# Altium footprint library Connector_TE-Connectivity.PcbLib: 65 footprints (part 2 of 5)
Each footprint in its own frame and in the unit in brackets; x right, y up, seen from the top. Pads: shape width x height; smd on the part's side, far side on the other; paste and mask are expansions set on the pad; w line width, h text height; cw(c..) or ccw(c..) is an arc to the next point about the centre after c.
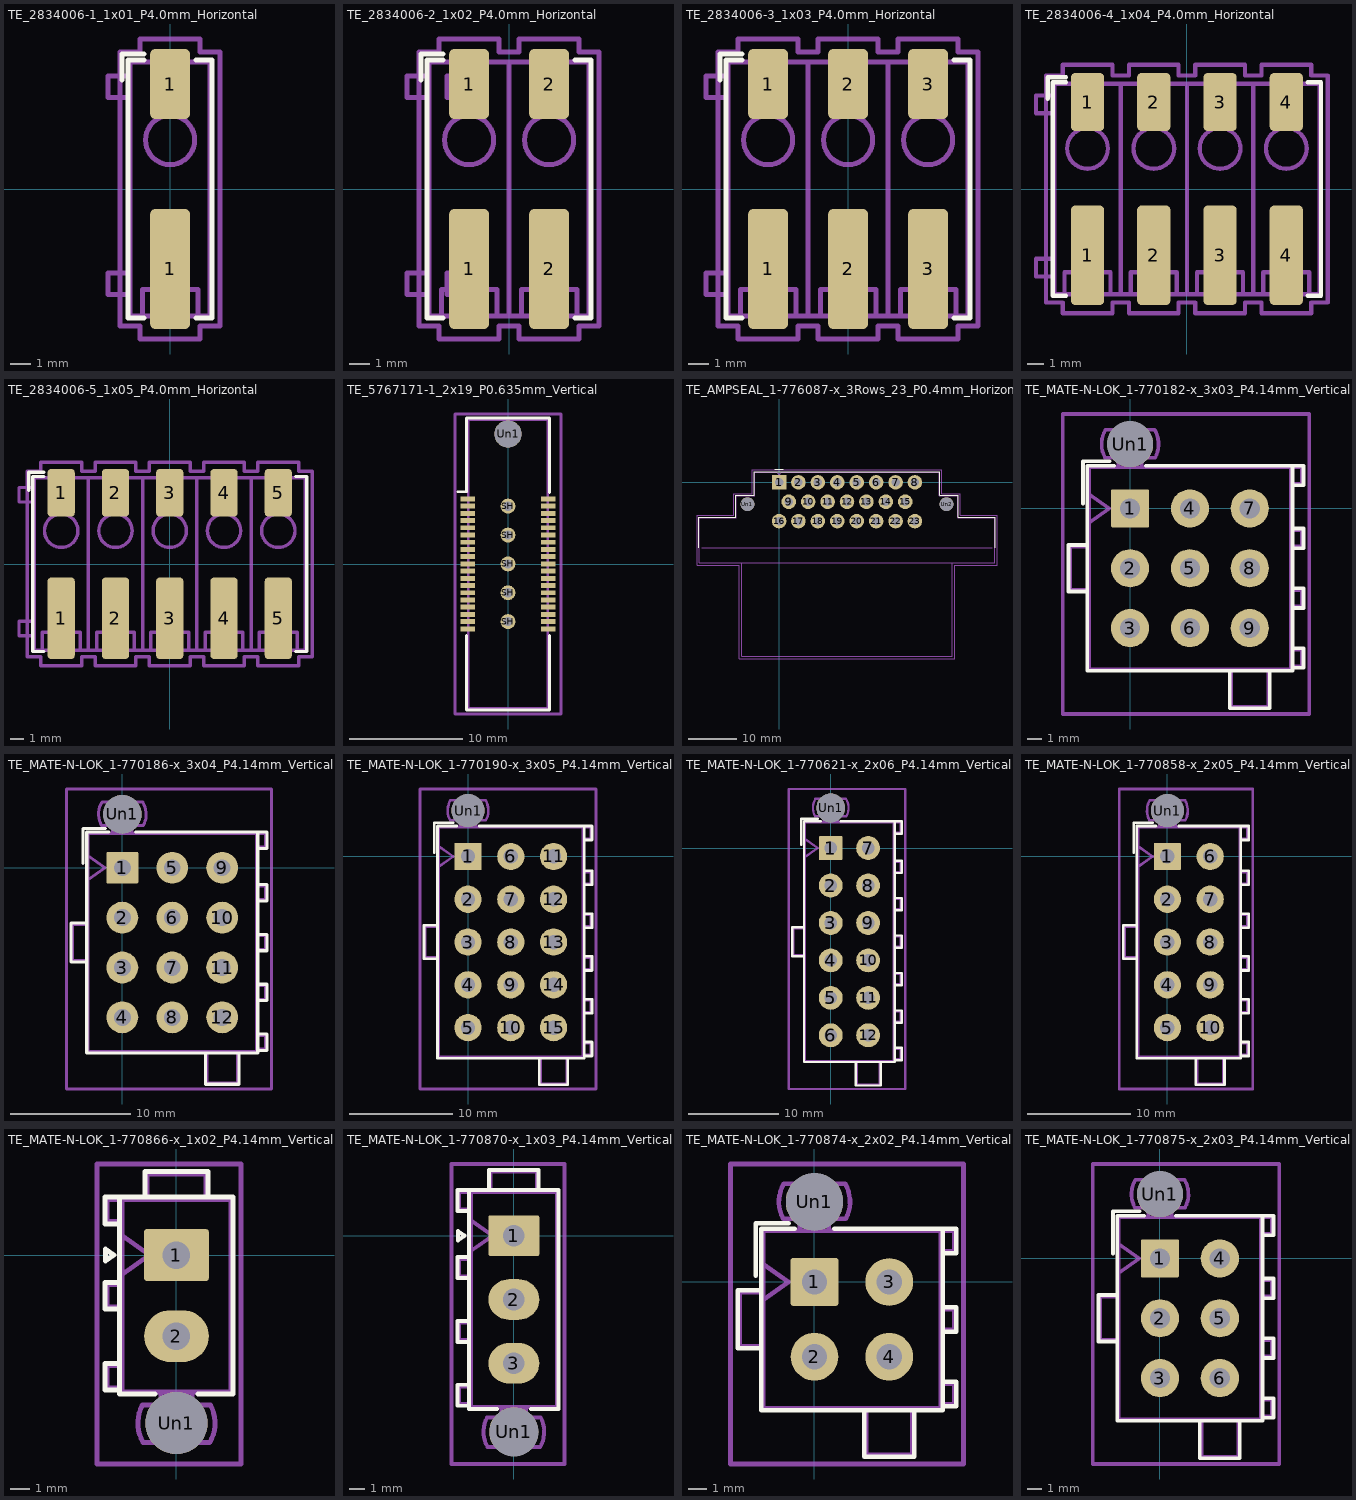
[diagram p1: the footprints below, top view; thin cyan lines are the x and y axes]

## TE_2834006-1_1x01_P4.0mm_Horizontal [mm]
pads (2):
  rrect25% 2x6 smd: 1(0,-4)
  rrect25% 2x3.5 smd: 1(0,5.25)
F.SilkS:
  lines w0.254: -2.4,5.45 -2.4,6.75 -1.3,6.75 ; -1.3,-6.45 -2.1,-6.45 -2.1,6.45 -1.3,6.45 ; 1.3,-6.45 2.1,-6.45 2.1,6.45 1.3,6.45
Top Assembly:
  circle w0.254: c0,2.45 r1.23
  lines w0.254: -0.5,6.35 0,5.35 0.5,6.35 ; -3.11,-5.282 -2,-5.282 -2,-4.21 -3.11,-4.21 -3.11,-5.282 ; -3.11,4.569 -2,4.569 -2,5.64 -3.11,5.64 -3.11,4.569 ; -2,-6.35 2,-6.35 2,6.35 -2,6.35 -2,-6.35 ; -1.39,-6.35 1.39,-6.35 1.39,-5.03 -1.39,-5.03 -1.39,-6.35
  text "'.Designator'" at 0.84,-5.547 h1
Top Courtyard:
  lines w0.254: -2.5,-6.85 -1.5,-6.85 -1.5,-7.5 1.5,-7.5 1.5,-6.85 2.5,-6.85 2.5,6.85 1.5,6.85 1.5,7.5 -1.5,7.5 -1.5,6.85 -2.5,6.85 -2.5,-6.85
Top Designator:
  text ".Designator" at -7.923,-0.508 h1.52

## TE_2834006-2_1x02_P4.0mm_Horizontal [mm]
pads (4):
  rrect25% 2x6 smd: 1(-2,-4) 2(2,-4)
  rrect25% 2x3.5 smd: 1(-2,5.25) 2(2,5.25)
F.SilkS:
  lines w0.254: -4.4,5.45 -4.4,6.75 -3.3,6.75 ; -3.3,-6.45 -4.1,-6.45 -4.1,6.45 -3.3,6.45 ; 3.3,-6.45 4.1,-6.45 4.1,6.45 3.3,6.45
Top Assembly:
  circle w0.254: c2,2.45 r1.23
  circle w0.254: c-2,2.45 r1.23
  lines w0.254: -2.5,6.35 -2,5.35 -1.5,6.35 ; 0,-6.35 4,-6.35 4,6.35 0,6.35 ; 0,-6.35 0,6.35 ; 0,-6.35 0,6.35 ; 0,-6.35 -4,-6.35 -4,6.35 0,6.35 ; -5.11,-5.282 -4,-5.282 -4,-4.21 -5.11,-4.21 -5.11,-5.282 ; -5.11,4.569 -4,4.569 -4,5.64 -5.11,5.64 -5.11,4.569 ; -3.39,-6.35 -0.61,-6.35 -0.61,-5.03 -3.39,-5.03 -3.39,-6.35 ; -3.11,-5.282 -2,-5.282 -2,-4.21 -3.11,-4.21 -3.11,-5.282 ; -3.11,4.569 -2,4.569 -2,5.64 -3.11,5.64 -3.11,4.569 ; 0.61,-6.35 3.39,-6.35 3.39,-5.03 0.61,-5.03 0.61,-6.35
  text "'.Designator'" at -1.16,-5.547 h1
Top Courtyard:
  lines w0.254: -4.5,-6.85 -3.5,-6.85 -3.5,-7.5 -0.5,-7.5 -0.5,-6.85 0.5,-6.85 0.5,-7.5 3.5,-7.5 3.5,-6.85 4.5,-6.85 4.5,6.85 3.5,6.85 3.5,7.5 0.5,7.5 0.5,6.85 -0.5,6.85 -0.5,7.5 -3.5,7.5 -3.5,6.85 -4.5,6.85 -4.5,-6.85
Top Designator:
  text ".Designator" at -7.923,-0.508 h1.52

## TE_2834006-3_1x03_P4.0mm_Horizontal [mm]
pads (6):
  rrect25% 2x6 smd: 1(-4,-4) 2(0,-4) 3(4,-4)
  rrect25% 2x3.5 smd: 1(-4,5.25) 2(0,5.25) 3(4,5.25)
F.SilkS:
  lines w0.254: -6.4,5.45 -6.4,6.75 -5.3,6.75 ; -5.3,-6.45 -6.1,-6.45 -6.1,6.45 -5.3,6.45 ; 5.3,-6.45 6.1,-6.45 6.1,6.45 5.3,6.45
Top Assembly:
  circle w0.254: c4,2.45 r1.23
  circle w0.254: c0,2.45 r1.23
  circle w0.254: c-4,2.45 r1.23
  lines w0.254: -4.5,6.35 -4,5.35 -3.5,6.35 ; -2,-6.35 2,-6.35 ; -2,-6.35 -2,6.35 ; -2,-6.35 -2,6.35 ; -2,-6.35 -6,-6.35 -6,6.35 -2,6.35 ; -2,6.35 2,6.35 ; 2,-6.35 6,-6.35 6,6.35 2,6.35 ; 2,-6.35 2,6.35 ; 2,-6.35 2,6.35 ; -7.11,-5.282 -6,-5.282 -6,-4.21 -7.11,-4.21 -7.11,-5.282 ; -7.11,4.569 -6,4.569 -6,5.64 -7.11,5.64 -7.11,4.569 ; -5.39,-6.35 -2.61,-6.35 -2.61,-5.03 -5.39,-5.03 -5.39,-6.35 ; -1.39,-6.35 1.39,-6.35 1.39,-5.03 -1.39,-5.03 -1.39,-6.35 ; 2.61,-6.35 5.39,-6.35 5.39,-5.03 2.61,-5.03 2.61,-6.35
  text "'.Designator'" at 0.84,-5.547 h1
Top Courtyard:
  lines w0.254: -6.5,-6.85 -5.5,-6.85 -5.5,-7.5 -2.5,-7.5 -2.5,-6.85 -1.5,-6.85 -1.5,-7.5 1.5,-7.5 1.5,-6.85 2.5,-6.85 2.5,-7.5 5.5,-7.5 5.5,-6.85 6.5,-6.85 6.5,6.85 5.5,6.85 5.5,7.5 2.5,7.5 2.5,6.85 1.5,6.85 1.5,7.5 -1.5,7.5 -1.5,6.85 -2.5,6.85 -2.5,7.5 -5.5,7.5 -5.5,6.85 -6.5,6.85 -6.5,-6.85
Top Designator:
  text ".Designator" at -7.923,-0.508 h1.52

## TE_2834006-4_1x04_P4.0mm_Horizontal [mm]
pads (8):
  rrect25% 2x6 smd: 1(-6,-4) 2(-2,-4) 3(2,-4) 4(6,-4)
  rrect25% 2x3.5 smd: 1(-6,5.25) 2(-2,5.25) 3(2,5.25) 4(6,5.25)
F.SilkS:
  lines w0.254: -8.4,5.45 -8.4,6.75 -7.3,6.75 ; -7.3,-6.45 -8.1,-6.45 -8.1,6.45 -7.3,6.45 ; 7.3,-6.45 8.1,-6.45 8.1,6.45 7.3,6.45
Top Assembly:
  circle w0.254: c6,2.45 r1.23
  circle w0.254: c2,2.45 r1.23
  circle w0.254: c-2,2.45 r1.23
  circle w0.254: c-6,2.45 r1.23
  lines w0.254: -6.5,6.35 -6,5.35 -5.5,6.35 ; -4,-6.35 0,-6.35 ; -4,-6.35 -4,6.35 ; -4,-6.35 -4,6.35 ; -4,-6.35 -8,-6.35 -8,6.35 -4,6.35 ; -4,6.35 0,6.35 ; 0,-6.35 4,-6.35 ; 0,-6.35 0,6.35 ; 0,-6.35 0,6.35 ; 0,6.35 4,6.35 ; 4,-6.35 8,-6.35 8,6.35 4,6.35 ; 4,-6.35 4,6.35 ; 4,-6.35 4,6.35 ; -9.11,-5.282 -8,-5.282 -8,-4.21 -9.11,-4.21 -9.11,-5.282 ; -9.11,4.569 -8,4.569 -8,5.64 -9.11,5.64 -9.11,4.569 ; -7.39,-6.35 -4.61,-6.35 -4.61,-5.03 -7.39,-5.03 -7.39,-6.35 ; -3.39,-6.35 -0.61,-6.35 -0.61,-5.03 -3.39,-5.03 -3.39,-6.35 ; 0.61,-6.35 3.39,-6.35 3.39,-5.03 0.61,-5.03 0.61,-6.35 ; 4.61,-6.35 7.39,-6.35 7.39,-5.03 4.61,-5.03 4.61,-6.35
  text "'.Designator'" at -1.16,-5.547 h1
Top Courtyard:
  lines w0.254: -8.5,-6.85 -7.5,-6.85 -7.5,-7.5 -4.5,-7.5 -4.5,-6.85 -3.5,-6.85 -3.5,-7.5 -0.5,-7.5 -0.5,-6.85 0.5,-6.85 0.5,-7.5 3.5,-7.5 3.5,-6.85 4.5,-6.85 4.5,-7.5 7.5,-7.5 7.5,-6.85 8.5,-6.85 8.5,6.85 7.5,6.85 7.5,7.5 4.5,7.5 4.5,6.85 3.5,6.85 3.5,7.5 0.5,7.5 0.5,6.85 -0.5,6.85 -0.5,7.5 -3.5,7.5 -3.5,6.85 -4.5,6.85 -4.5,7.5 -7.5,7.5 -7.5,6.85 -8.5,6.85 -8.5,-6.85
Top Designator:
  text ".Designator" at -7.923,-0.508 h1.52

## TE_2834006-5_1x05_P4.0mm_Horizontal [mm]
pads (10):
  rrect25% 2x6 smd: 1(-8,-4) 2(-4,-4) 3(0,-4) 4(4,-4) 5(8,-4)
  rrect25% 2x3.5 smd: 1(-8,5.25) 2(-4,5.25) 3(0,5.25) 4(4,5.25) 5(8,5.25)
F.SilkS:
  lines w0.254: -10.4,5.45 -10.4,6.75 -9.3,6.75 ; -9.3,-6.45 -10.1,-6.45 -10.1,6.45 -9.3,6.45 ; 9.3,-6.45 10.1,-6.45 10.1,6.45 9.3,6.45
Top Assembly:
  circle w0.254: c8,2.45 r1.23
  circle w0.254: c4,2.45 r1.23
  circle w0.254: c0,2.45 r1.23
  circle w0.254: c-4,2.45 r1.23
  circle w0.254: c-8,2.45 r1.23
  lines w0.254: -8.5,6.35 -8,5.35 -7.5,6.35 ; -6,-6.35 -2,-6.35 ; -6,-6.35 -6,6.35 ; -6,-6.35 -6,6.35 ; -6,-6.35 -10,-6.35 -10,6.35 -6,6.35 ; -6,6.35 -2,6.35 ; -2,-6.35 2,-6.35 ; -2,-6.35 -2,6.35 ; -2,-6.35 -2,6.35 ; -2,6.35 2,6.35 ; 2,-6.35 6,-6.35 ; 2,-6.35 2,6.35 ; 2,-6.35 2,6.35 ; 2,6.35 6,6.35 ; 6,-6.35 10,-6.35 10,6.35 6,6.35 ; 6,-6.35 6,6.35 ; 6,-6.35 6,6.35 ; -11.11,-5.282 -10,-5.282 -10,-4.21 -11.11,-4.21 -11.11,-5.282 ; -11.11,4.569 -10,4.569 -10,5.64 -11.11,5.64 -11.11,4.569 ; -9.39,-6.35 -6.61,-6.35 -6.61,-5.03 -9.39,-5.03 -9.39,-6.35 ; -5.39,-6.35 -2.61,-6.35 -2.61,-5.03 -5.39,-5.03 -5.39,-6.35 ; -1.39,-6.35 1.39,-6.35 1.39,-5.03 -1.39,-5.03 -1.39,-6.35 ; 2.61,-6.35 5.39,-6.35 5.39,-5.03 2.61,-5.03 2.61,-6.35 ; 6.61,-6.35 9.39,-6.35 9.39,-5.03 6.61,-5.03 6.61,-6.35
  text "'.Designator'" at 0.84,-5.547 h1
Top Courtyard:
  lines w0.254: -10.5,-6.85 -9.5,-6.85 -9.5,-7.5 -6.5,-7.5 -6.5,-6.85 -5.5,-6.85 -5.5,-7.5 -2.5,-7.5 -2.5,-6.85 -1.5,-6.85 -1.5,-7.5 1.5,-7.5 1.5,-6.85 2.5,-6.85 2.5,-7.5 5.5,-7.5 5.5,-6.85 6.5,-6.85 6.5,-7.5 9.5,-7.5 9.5,-6.85 10.5,-6.85 10.5,6.85 9.5,6.85 9.5,7.5 6.5,7.5 6.5,6.85 5.5,6.85 5.5,7.5 2.5,7.5 2.5,6.85 1.5,6.85 1.5,7.5 -1.5,7.5 -1.5,6.85 -2.5,6.85 -2.5,7.5 -5.5,7.5 -5.5,6.85 -6.5,6.85 -6.5,7.5 -9.5,7.5 -9.5,6.85 -10.5,6.85 -10.5,-6.85
Top Designator:
  text ".Designator" at -7.923,-0.508 h1.52

## TE_5767171-1_2x19_P0.635mm_Vertical [mm]
pads (44):
  rect 1.27x0.43 smd: 1(-3.53,5.725) 2(3.53,5.725) 3(-3.53,5.09) 4(3.53,5.09) 5(-3.53,4.455) 6(3.53,4.455) 7(-3.53,3.82) 8(3.53,3.82) 9(-3.53,3.185) 10(3.53,3.185) 11(-3.53,2.55) 12(3.53,2.55) 13(-3.53,1.915) 14(3.53,1.915) 15(-3.53,1.28) 16(3.53,1.28) 17(-3.53,0.645) 18(3.53,0.645) 19(-3.53,0.01) 20(3.53,0.01) 21(-3.53,-0.625) 22(3.53,-0.625) 23(-3.53,-1.26) 24(3.53,-1.26) 25(-3.53,-1.895) 26(3.53,-1.895) 27(-3.53,-2.53) 28(3.53,-2.53) 29(-3.53,-3.165) 30(3.53,-3.165) 31(-3.53,-3.8) 32(3.53,-3.8) 33(-3.53,-4.435) 34(3.53,-4.435) 35(-3.53,-5.07) 36(3.53,-5.07) 37(-3.53,-5.705) 38(3.53,-5.705)
  round 1.318 hole 0.81: SH(0,-5.07) SH(0,-2.53) SH(0,0.01) SH(0,2.55) SH(0,5.09)
  round 2.39 hole 2.39: Un1(0,11.44)
F.SilkS:
  lines w0.254: -4.4,6.358 -3.65,6.358 -3.65,12.858 3.65,12.858 3.65,6.308 ; -3.65,-6.292 -3.65,-12.842 3.65,-12.842 3.65,-6.292
Top Assembly:
  lines w0.254: -3.5,-12.7 3.5,-12.7 3.5,12.7 -3.5,12.7 -3.5,-12.7
  text "'.Designator'" at -4.047,2.517 h1
Top Courtyard:
  lines w0.254: -4.66,-13.2 4.66,-13.2 4.66,13.2 -4.66,13.2 -4.66,-13.2
Top Designator:
  text ".Designator" at -7.618,-0.508 h1.52

## TE_AMPSEAL_1-776087-x_3Rows_23_P0.4mm_Horizontal [mm]
pads (25):
  rect 3x3 hole 1.75: 1(0,0)
  round 3 hole 1.75: 2(4,0) 3(8,0) 4(12,0) 5(16,0) 6(20,0) 7(24,0) 8(28,0) 9(2,-4) 10(6,-4) 11(10,-4) 12(14,-4) 13(18,-4) 14(22,-4) 15(26,-4) 16(0,-8) 17(4,-8) 18(8,-8) 19(12,-8) 20(16,-8) 21(20,-8) 22(24,-8) 23(28,-8)
  round 2.85 hole 2.85: Un1(-6.5,-4.5) Un2(34.5,-4.5)
F.SilkS:
  lines w0.254: -16.5,-13.5 -16.5,-7.2 -8.9,-7.2 -8.9,-2.7 -5.1,-2.7 -5.1,2.15 33.1,2.15 33.1,-2.7 36.9,-2.7 36.9,-7.2 44.5,-7.2 44.5,-13.5 ; -0.875,2.708 0.875,2.708
Top Assembly:
  lines w0.254: -15.9,-13.5 43.9,-13.5 ; -7.7,-16.55 -7.7,-35.85 35.7,-35.85 35.7,-16.55 ; -16.4,-16.55 44.4,-16.55 44.4,-7.3 36.8,-7.3 36.8,-2.8 33,-2.8 33,2.05 0.5,2.05 0,1.55 -0.5,2.05 -5,2.05 -5,-2.8 -8.8,-2.8 -8.8,-7.3 -16.4,-7.3 -16.4,-16.55
  text "'.Designator'" at 9.953,-4.84 h1
Top Courtyard:
  lines w0.254: -16.9,-17.05 -8.2,-17.05 -8.2,-36.35 36.2,-36.35 36.2,-17.05 44.9,-17.05 44.9,-6.8 37.3,-6.8 37.3,-2.3 33.5,-2.3 33.5,2.55 -5.5,2.55 -5.5,-2.3 -9.3,-2.3 -9.3,-6.8 -16.9,-6.8 -16.9,-17.05
Top Designator:
  text ".Designator" at 6.382,-17.329 h1.52
Dwgs.User:
  text "Panel Edge" at 10.187,-17.367 h1
  text "PCB Edge" at 10.953,-14.367 h1

## TE_MATE-N-LOK_1-770182-x_3x03_P4.14mm_Vertical [mm]
pads (10):
  rrect9% 2.64x2.64 hole 1.4: 1(0,0)
  round 2.64 hole 1.4: 2(0,-4.14) 3(0,-8.28) 4(4.14,0) 5(4.14,-4.14) 6(4.14,-8.28) 7(8.28,0) 8(8.28,-4.14) 9(8.28,-8.28)
  round 3.18 hole 3.18: Un1(0,4.44)
F.SilkS:
  lines w0.254: -3.255,0.345 -3.255,3.255 -1.421,3.255 ; -2.955,-5.75 -4.255,-5.75 -4.255,-2.53 -2.955,-2.53 ; -1.103,2.955 -2.955,2.955 -2.955,-11.235 0,-11.235 11.235,-11.235 11.235,2.955 ; 1.103,2.955 11.235,2.955 ; 6.9,-11.235 6.9,-13.826 9.66,-13.826 9.66,-11.235 ; 11.235,-11.03 11.995,-11.03 11.995,-9.67 11.235,-9.67 ; 11.235,-6.89 11.995,-6.89 11.995,-5.53 11.235,-5.53 ; 11.235,-2.75 11.995,-2.75 11.995,-1.39 11.235,-1.39 ; 11.235,1.595 11.995,1.595 11.995,2.955 11.235,2.955
Top Assembly:
  lines w0.254: -2.845,-5.64 -4.145,-5.64 -4.145,-2.64 -2.845,-2.64 ; -2.845,-1 -1.431,0 -2.845,1 ; -0.8,2.845 -0.8,3.505 ; 0.8,2.845 0.8,3.505 ; 7.01,-11.125 7.01,-13.716 9.55,-13.716 9.55,-11.125 ; 11.125,-10.92 11.885,-10.92 11.885,-9.78 11.125,-9.78 ; 11.125,-6.78 11.885,-6.78 11.885,-5.64 11.125,-5.64 ; 11.125,-2.64 11.885,-2.64 11.885,-1.5 11.125,-1.5 ; 11.125,1.705 11.885,1.705 11.885,2.845 11.125,2.845 ; 11.125,2.845 11.125,-11.125 -2.845,-11.125 -2.845,2.845 11.125,2.845 ; -1.734,3.505 cw(c0,4.44) -1.7,5.436 1.7,5.436 cw(c0,4.44) 1.734,3.505 -1.734,3.505
  text "'.Designator'" at 11.26,-8.187 h1
Top Courtyard:
  lines w0.254: -4.65,-14.22 12.39,-14.22 12.39,6.53 -4.65,6.53 -4.65,-14.22
Top Designator:
  text ".Designator" at -3.748,-4.353 h1.52

## TE_MATE-N-LOK_1-770186-x_3x04_P4.14mm_Vertical [mm]
pads (13):
  rrect9% 2.64x2.64 hole 1.4: 1(0,0)
  round 2.64 hole 1.4: 2(0,-4.14) 3(0,-8.28) 4(0,-12.42) 5(4.14,0) 6(4.14,-4.14) 7(4.14,-8.28) 8(4.14,-12.42) 9(8.28,0) 10(8.28,-4.14) 11(8.28,-8.28) 12(8.28,-12.42)
  round 3.18 hole 3.18: Un1(0,4.44)
F.SilkS:
  lines w0.254: -3.255,0.345 -3.255,3.255 -1.421,3.255 ; -2.955,-7.82 -4.255,-7.82 -4.255,-4.6 -2.955,-4.6 ; -1.103,2.955 -2.955,2.955 -2.955,-15.375 0,-15.375 11.235,-15.375 11.235,2.955 ; 1.103,2.955 11.235,2.955 ; 6.9,-15.375 6.9,-17.966 9.66,-17.966 9.66,-15.375 ; 11.235,-15.17 11.995,-15.17 11.995,-13.81 11.235,-13.81 ; 11.235,-11.03 11.995,-11.03 11.995,-9.67 11.235,-9.67 ; 11.235,-6.89 11.995,-6.89 11.995,-5.53 11.235,-5.53 ; 11.235,-2.75 11.995,-2.75 11.995,-1.39 11.235,-1.39 ; 11.235,1.595 11.995,1.595 11.995,2.955 11.235,2.955
Top Assembly:
  lines w0.254: -2.845,-7.71 -4.145,-7.71 -4.145,-4.71 -2.845,-4.71 ; -2.845,-1 -1.431,0 -2.845,1 ; -0.8,2.845 -0.8,3.505 ; 0.8,2.845 0.8,3.505 ; 7.01,-15.265 7.01,-17.856 9.55,-17.856 9.55,-15.265 ; 11.125,-15.06 11.885,-15.06 11.885,-13.92 11.125,-13.92 ; 11.125,-10.92 11.885,-10.92 11.885,-9.78 11.125,-9.78 ; 11.125,-6.78 11.885,-6.78 11.885,-5.64 11.125,-5.64 ; 11.125,-2.64 11.885,-2.64 11.885,-1.5 11.125,-1.5 ; 11.125,1.705 11.885,1.705 11.885,2.845 11.125,2.845 ; 11.125,2.845 11.125,-15.265 -2.845,-15.265 -2.845,2.845 11.125,2.845 ; -1.734,3.505 cw(c0,4.44) -1.7,5.436 1.7,5.436 cw(c0,4.44) 1.734,3.505 -1.734,3.505
  text "'.Designator'" at 11.26,-10.257 h1
Top Courtyard:
  lines w0.254: -4.65,-18.36 12.39,-18.36 12.39,6.53 -4.65,6.53 -4.65,-18.36
Top Designator:
  text ".Designator" at -3.748,-6.423 h1.52

## TE_MATE-N-LOK_1-770190-x_3x05_P4.14mm_Vertical [mm]
pads (16):
  rrect9% 2.64x2.64 hole 1.4: 1(0,0)
  round 2.64 hole 1.4: 2(0,-4.14) 3(0,-8.28) 4(0,-12.42) 5(0,-16.56) 6(4.14,0) 7(4.14,-4.14) 8(4.14,-8.28) 9(4.14,-12.42) 10(4.14,-16.56) 11(8.28,0) 12(8.28,-4.14) 13(8.28,-8.28) 14(8.28,-12.42) 15(8.28,-16.56)
  round 3.18 hole 3.18: Un1(0,4.44)
F.SilkS:
  lines w0.254: -3.255,0.345 -3.255,3.255 -1.421,3.255 ; -2.955,-9.89 -4.255,-9.89 -4.255,-6.67 -2.955,-6.67 ; -1.103,2.955 -2.955,2.955 -2.955,-19.515 0,-19.515 11.235,-19.515 11.235,2.955 ; 1.103,2.955 11.235,2.955 ; 6.9,-19.515 6.9,-22.106 9.66,-22.106 9.66,-19.515 ; 11.235,-19.31 11.995,-19.31 11.995,-17.95 11.235,-17.95 ; 11.235,-15.17 11.995,-15.17 11.995,-13.81 11.235,-13.81 ; 11.235,-11.03 11.995,-11.03 11.995,-9.67 11.235,-9.67 ; 11.235,-6.89 11.995,-6.89 11.995,-5.53 11.235,-5.53 ; 11.235,-2.75 11.995,-2.75 11.995,-1.39 11.235,-1.39 ; 11.235,1.595 11.995,1.595 11.995,2.955 11.235,2.955
Top Assembly:
  lines w0.254: -2.845,-9.78 -4.145,-9.78 -4.145,-6.78 -2.845,-6.78 ; -2.845,-1 -1.431,0 -2.845,1 ; -0.8,2.845 -0.8,3.505 ; 0.8,2.845 0.8,3.505 ; 7.01,-19.405 7.01,-21.996 9.55,-21.996 9.55,-19.405 ; 11.125,-19.2 11.885,-19.2 11.885,-18.06 11.125,-18.06 ; 11.125,-15.06 11.885,-15.06 11.885,-13.92 11.125,-13.92 ; 11.125,-10.92 11.885,-10.92 11.885,-9.78 11.125,-9.78 ; 11.125,-6.78 11.885,-6.78 11.885,-5.64 11.125,-5.64 ; 11.125,-2.64 11.885,-2.64 11.885,-1.5 11.125,-1.5 ; 11.125,1.705 11.885,1.705 11.885,2.845 11.125,2.845 ; 11.125,2.845 11.125,-19.405 -2.845,-19.405 -2.845,2.845 11.125,2.845 ; -1.734,3.505 cw(c0,4.44) -1.7,5.436 1.7,5.436 cw(c0,4.44) 1.734,3.505 -1.734,3.505
  text "'.Designator'" at 11.26,-12.327 h1
Top Courtyard:
  lines w0.254: -4.65,-22.5 12.39,-22.5 12.39,6.53 -4.65,6.53 -4.65,-22.5
Top Designator:
  text ".Designator" at -3.748,-8.493 h1.52

## TE_MATE-N-LOK_1-770621-x_2x06_P4.14mm_Vertical [mm]
pads (13):
  rrect9% 2.64x2.64 hole 1.4: 1(0,0)
  round 2.64 hole 1.4: 2(0,-4.14) 3(0,-8.28) 4(0,-12.42) 5(0,-16.56) 6(0,-20.7) 7(4.14,0) 8(4.14,-4.14) 9(4.14,-8.28) 10(4.14,-12.42) 11(4.14,-16.56) 12(4.14,-20.7)
  round 3.18 hole 3.18: Un1(0,4.44)
F.SilkS:
  lines w0.254: -3.255,0.345 -3.255,3.255 -1.421,3.255 ; -2.955,-11.96 -4.255,-11.96 -4.255,-8.74 -2.955,-8.74 ; -1.103,2.955 -2.955,2.955 -2.955,-23.655 0,-23.655 7.095,-23.655 7.095,2.955 ; 1.103,2.955 7.095,2.955 ; 2.76,-23.655 2.76,-26.246 5.52,-26.246 5.52,-23.655 ; 7.095,-23.45 7.855,-23.45 7.855,-22.09 7.095,-22.09 ; 7.095,-19.31 7.855,-19.31 7.855,-17.95 7.095,-17.95 ; 7.095,-15.17 7.855,-15.17 7.855,-13.81 7.095,-13.81 ; 7.095,-11.03 7.855,-11.03 7.855,-9.67 7.095,-9.67 ; 7.095,-6.89 7.855,-6.89 7.855,-5.53 7.095,-5.53 ; 7.095,-2.75 7.855,-2.75 7.855,-1.39 7.095,-1.39 ; 7.095,1.595 7.855,1.595 7.855,2.955 7.095,2.955
Top Assembly:
  lines w0.254: -2.845,-11.85 -4.145,-11.85 -4.145,-8.85 -2.845,-8.85 ; -2.845,-1 -1.431,0 -2.845,1 ; -0.8,2.845 -0.8,3.505 ; 0.8,2.845 0.8,3.505 ; 2.87,-23.545 2.87,-26.136 5.41,-26.136 5.41,-23.545 ; 6.985,-23.34 7.745,-23.34 7.745,-22.2 6.985,-22.2 ; 6.985,-19.2 7.745,-19.2 7.745,-18.06 6.985,-18.06 ; 6.985,-15.06 7.745,-15.06 7.745,-13.92 6.985,-13.92 ; 6.985,-10.92 7.745,-10.92 7.745,-9.78 6.985,-9.78 ; 6.985,-6.78 7.745,-6.78 7.745,-5.64 6.985,-5.64 ; 6.985,-2.64 7.745,-2.64 7.745,-1.5 6.985,-1.5 ; 6.985,1.705 7.745,1.705 7.745,2.845 6.985,2.845 ; 6.985,2.845 6.985,-23.545 -2.845,-23.545 -2.845,2.845 6.985,2.845 ; -1.734,3.505 cw(c0,4.44) -1.7,5.436 1.7,5.436 cw(c0,4.44) 1.734,3.505 -1.734,3.505
  text "'.Designator'" at 7.12,-14.397 h1
Top Courtyard:
  lines w0.254: -4.65,-26.64 8.25,-26.64 8.25,6.53 -4.65,6.53 -4.65,-26.64
Top Designator:
  text ".Designator" at -5.818,-10.563 h1.52

## TE_MATE-N-LOK_1-770858-x_2x05_P4.14mm_Vertical [mm]
pads (11):
  rrect9% 2.64x2.64 hole 1.4: 1(0,0)
  round 2.64 hole 1.4: 2(0,-4.14) 3(0,-8.28) 4(0,-12.42) 5(0,-16.56) 6(4.14,0) 7(4.14,-4.14) 8(4.14,-8.28) 9(4.14,-12.42) 10(4.14,-16.56)
  round 3.18 hole 3.18: Un1(0,4.44)
F.SilkS:
  lines w0.254: -3.255,0.345 -3.255,3.255 -1.421,3.255 ; -2.955,-9.89 -4.255,-9.89 -4.255,-6.67 -2.955,-6.67 ; -1.103,2.955 -2.955,2.955 -2.955,-19.515 0,-19.515 7.095,-19.515 7.095,2.955 ; 1.103,2.955 7.095,2.955 ; 2.76,-19.515 2.76,-22.106 5.52,-22.106 5.52,-19.515 ; 7.095,-19.31 7.855,-19.31 7.855,-17.95 7.095,-17.95 ; 7.095,-15.17 7.855,-15.17 7.855,-13.81 7.095,-13.81 ; 7.095,-11.03 7.855,-11.03 7.855,-9.67 7.095,-9.67 ; 7.095,-6.89 7.855,-6.89 7.855,-5.53 7.095,-5.53 ; 7.095,-2.75 7.855,-2.75 7.855,-1.39 7.095,-1.39 ; 7.095,1.595 7.855,1.595 7.855,2.955 7.095,2.955
Top Assembly:
  lines w0.254: -2.845,-9.78 -4.145,-9.78 -4.145,-6.78 -2.845,-6.78 ; -2.845,-1 -1.431,0 -2.845,1 ; -0.8,2.845 -0.8,3.505 ; 0.8,2.845 0.8,3.505 ; 2.87,-19.405 2.87,-21.996 5.41,-21.996 5.41,-19.405 ; 6.985,-19.2 7.745,-19.2 7.745,-18.06 6.985,-18.06 ; 6.985,-15.06 7.745,-15.06 7.745,-13.92 6.985,-13.92 ; 6.985,-10.92 7.745,-10.92 7.745,-9.78 6.985,-9.78 ; 6.985,-6.78 7.745,-6.78 7.745,-5.64 6.985,-5.64 ; 6.985,-2.64 7.745,-2.64 7.745,-1.5 6.985,-1.5 ; 6.985,1.705 7.745,1.705 7.745,2.845 6.985,2.845 ; 6.985,2.845 6.985,-19.405 -2.845,-19.405 -2.845,2.845 6.985,2.845 ; -1.734,3.505 cw(c0,4.44) -1.7,5.436 1.7,5.436 cw(c0,4.44) 1.734,3.505 -1.734,3.505
  text "'.Designator'" at 7.12,-12.327 h1
Top Courtyard:
  lines w0.254: -4.65,-22.5 8.25,-22.5 8.25,6.53 -4.65,6.53 -4.65,-22.5
Top Designator:
  text ".Designator" at -5.818,-8.493 h1.52

## TE_MATE-N-LOK_1-770866-x_1x02_P4.14mm_Vertical [mm]
pads (3):
  rrect9% 3.3x2.64 hole 1.4: 1(0,0)
  rrect100% 3.3x2.64 hole 1.4: 2(0,-4.14)
  round 3.18 hole 3.18: Un1(0,-8.58)
F.SilkS:
  lines w0.254: -2.9,-6.89 -3.66,-6.89 -3.66,-5.53 -2.9,-5.53 ; -2.9,-2.75 -3.66,-2.75 -3.66,-1.39 -2.9,-1.39 ; -2.9,1.595 -3.66,1.595 -3.66,2.955 -2.9,2.955 ; -1.61,2.955 -1.61,4.255 1.61,4.255 1.61,2.955 ; -1.103,-7.095 -2.9,-7.095 -2.9,2.955 ; 1.103,-7.095 2.9,-7.095 2.9,2.955 0,2.955 -2.9,2.955 ; -3.624,-0.3 -3.2,0 -3.624,0.3 -3.624,-0.3
Top Assembly:
  lines w0.254: -2.79,-6.78 -3.55,-6.78 -3.55,-5.64 -2.79,-5.64 ; -2.79,-2.64 -3.55,-2.64 -3.55,-1.5 -2.79,-1.5 ; -2.79,-1 -1.376,0 -2.79,1 ; -2.79,1.705 -3.55,1.705 -3.55,2.845 -2.79,2.845 ; -1.5,2.845 -1.5,4.145 1.5,4.145 1.5,2.845 ; -0.8,-7.645 -0.8,-6.985 ; 0.8,-7.645 0.8,-6.985 ; -2.79,2.845 2.79,2.845 2.79,-6.985 -2.79,-6.985 -2.79,2.845 ; -1.734,-7.645 ccw(c0,-8.58) -1.7,-9.576 1.7,-9.576 ccw(c0,-8.58) 1.734,-7.645 -1.734,-7.645
  text "'.Designator'" at 2.93,-6.117 h1
Top Courtyard:
  lines w0.254: -4.05,-10.67 3.29,-10.67 3.29,4.65 -4.05,4.65 -4.05,-10.67
Top Designator:
  text ".Designator" at -7.998,-3.518 h1.52

## TE_MATE-N-LOK_1-770870-x_1x03_P4.14mm_Vertical [mm]
pads (4):
  rrect9% 3.3x2.64 hole 1.4: 1(0,0)
  rrect100% 3.3x2.64 hole 1.4: 2(0,-4.14) 3(0,-8.28)
  round 3.18 hole 3.18: Un1(0,-12.72)
F.SilkS:
  lines w0.254: -2.9,-11.03 -3.66,-11.03 -3.66,-9.67 -2.9,-9.67 ; -2.9,-6.89 -3.66,-6.89 -3.66,-5.53 -2.9,-5.53 ; -2.9,-2.75 -3.66,-2.75 -3.66,-1.39 -2.9,-1.39 ; -2.9,1.595 -3.66,1.595 -3.66,2.955 -2.9,2.955 ; -1.61,2.955 -1.61,4.255 1.61,4.255 1.61,2.955 ; -1.103,-11.235 -2.9,-11.235 -2.9,2.955 ; 1.103,-11.235 2.9,-11.235 2.9,2.955 0,2.955 -2.9,2.955 ; -3.624,-0.3 -3.2,0 -3.624,0.3 -3.624,-0.3
Top Assembly:
  lines w0.254: -2.79,-10.92 -3.55,-10.92 -3.55,-9.78 -2.79,-9.78 ; -2.79,-6.78 -3.55,-6.78 -3.55,-5.64 -2.79,-5.64 ; -2.79,-2.64 -3.55,-2.64 -3.55,-1.5 -2.79,-1.5 ; -2.79,-1 -1.376,0 -2.79,1 ; -2.79,1.705 -3.55,1.705 -3.55,2.845 -2.79,2.845 ; -1.5,2.845 -1.5,4.145 1.5,4.145 1.5,2.845 ; -0.8,-11.785 -0.8,-11.125 ; 0.8,-11.785 0.8,-11.125 ; -2.79,2.845 2.79,2.845 2.79,-11.125 -2.79,-11.125 -2.79,2.845 ; -1.734,-11.785 ccw(c0,-12.72) -1.7,-13.716 1.7,-13.716 ccw(c0,-12.72) 1.734,-11.785 -1.734,-11.785
  text "'.Designator'" at 2.93,-8.187 h1
Top Courtyard:
  lines w0.254: -4.05,-14.81 3.29,-14.81 3.29,4.65 -4.05,4.65 -4.05,-14.81
Top Designator:
  text ".Designator" at -7.998,-5.588 h1.52

## TE_MATE-N-LOK_1-770874-x_2x02_P4.14mm_Vertical [mm]
pads (5):
  rrect9% 2.64x2.64 hole 1.4: 1(0,0)
  round 2.64 hole 1.4: 2(0,-4.14) 3(4.14,0) 4(4.14,-4.14)
  round 3.18 hole 3.18: Un1(0,4.44)
F.SilkS:
  lines w0.254: -3.255,0.345 -3.255,3.255 -1.421,3.255 ; -2.955,-3.68 -4.255,-3.68 -4.255,-0.46 -2.955,-0.46 ; -1.103,2.955 -2.955,2.955 -2.955,-7.095 0,-7.095 7.095,-7.095 7.095,2.955 ; 1.103,2.955 7.095,2.955 ; 2.76,-7.095 2.76,-9.686 5.52,-9.686 5.52,-7.095 ; 7.095,-6.89 7.855,-6.89 7.855,-5.53 7.095,-5.53 ; 7.095,-2.75 7.855,-2.75 7.855,-1.39 7.095,-1.39 ; 7.095,1.595 7.855,1.595 7.855,2.955 7.095,2.955
Top Assembly:
  lines w0.254: -2.845,-3.57 -4.145,-3.57 -4.145,-0.57 -2.845,-0.57 ; -2.845,-1 -1.431,0 -2.845,1 ; -0.8,2.845 -0.8,3.505 ; 0.8,2.845 0.8,3.505 ; 2.87,-6.985 2.87,-9.576 5.41,-9.576 5.41,-6.985 ; 6.985,-6.78 7.745,-6.78 7.745,-5.64 6.985,-5.64 ; 6.985,-2.64 7.745,-2.64 7.745,-1.5 6.985,-1.5 ; 6.985,1.705 7.745,1.705 7.745,2.845 6.985,2.845 ; 6.985,2.845 6.985,-6.985 -2.845,-6.985 -2.845,2.845 6.985,2.845 ; -1.734,3.505 cw(c0,4.44) -1.7,5.436 1.7,5.436 cw(c0,4.44) 1.734,3.505 -1.734,3.505
  text "'.Designator'" at 7.12,-6.117 h1
Top Courtyard:
  lines w0.254: -4.65,-10.08 8.25,-10.08 8.25,6.53 -4.65,6.53 -4.65,-10.08
Top Designator:
  text ".Designator" at -5.818,-2.283 h1.52

## TE_MATE-N-LOK_1-770875-x_2x03_P4.14mm_Vertical [mm]
pads (7):
  rrect9% 2.64x2.64 hole 1.4: 1(0,0)
  round 2.64 hole 1.4: 2(0,-4.14) 3(0,-8.28) 4(4.14,0) 5(4.14,-4.14) 6(4.14,-8.28)
  round 3.18 hole 3.18: Un1(0,4.44)
F.SilkS:
  lines w0.254: -3.255,0.345 -3.255,3.255 -1.421,3.255 ; -2.955,-5.75 -4.255,-5.75 -4.255,-2.53 -2.955,-2.53 ; -1.103,2.955 -2.955,2.955 -2.955,-11.235 0,-11.235 7.095,-11.235 7.095,2.955 ; 1.103,2.955 7.095,2.955 ; 2.76,-11.235 2.76,-13.826 5.52,-13.826 5.52,-11.235 ; 7.095,-11.03 7.855,-11.03 7.855,-9.67 7.095,-9.67 ; 7.095,-6.89 7.855,-6.89 7.855,-5.53 7.095,-5.53 ; 7.095,-2.75 7.855,-2.75 7.855,-1.39 7.095,-1.39 ; 7.095,1.595 7.855,1.595 7.855,2.955 7.095,2.955
Top Assembly:
  lines w0.254: -2.845,-5.64 -4.145,-5.64 -4.145,-2.64 -2.845,-2.64 ; -2.845,-1 -1.431,0 -2.845,1 ; -0.8,2.845 -0.8,3.505 ; 0.8,2.845 0.8,3.505 ; 2.87,-11.125 2.87,-13.716 5.41,-13.716 5.41,-11.125 ; 6.985,-10.92 7.745,-10.92 7.745,-9.78 6.985,-9.78 ; 6.985,-6.78 7.745,-6.78 7.745,-5.64 6.985,-5.64 ; 6.985,-2.64 7.745,-2.64 7.745,-1.5 6.985,-1.5 ; 6.985,1.705 7.745,1.705 7.745,2.845 6.985,2.845 ; 6.985,2.845 6.985,-11.125 -2.845,-11.125 -2.845,2.845 6.985,2.845 ; -1.734,3.505 cw(c0,4.44) -1.7,5.436 1.7,5.436 cw(c0,4.44) 1.734,3.505 -1.734,3.505
  text "'.Designator'" at 7.12,-8.187 h1
Top Courtyard:
  lines w0.254: -4.65,-14.22 8.25,-14.22 8.25,6.53 -4.65,6.53 -4.65,-14.22
Top Designator:
  text ".Designator" at -5.818,-4.353 h1.52